# Altium footprint library Stm8_PCB.PcbLib: 9 footprints
Each footprint in its own frame and in the unit in brackets; x right, y up, seen from the top. Pads: shape width x height; smd on the part's side, far side on the other; paste and mask are expansions set on the pad; w line width, h text height; cw(c..) or ccw(c..) is an arc to the next point about the centre after c.
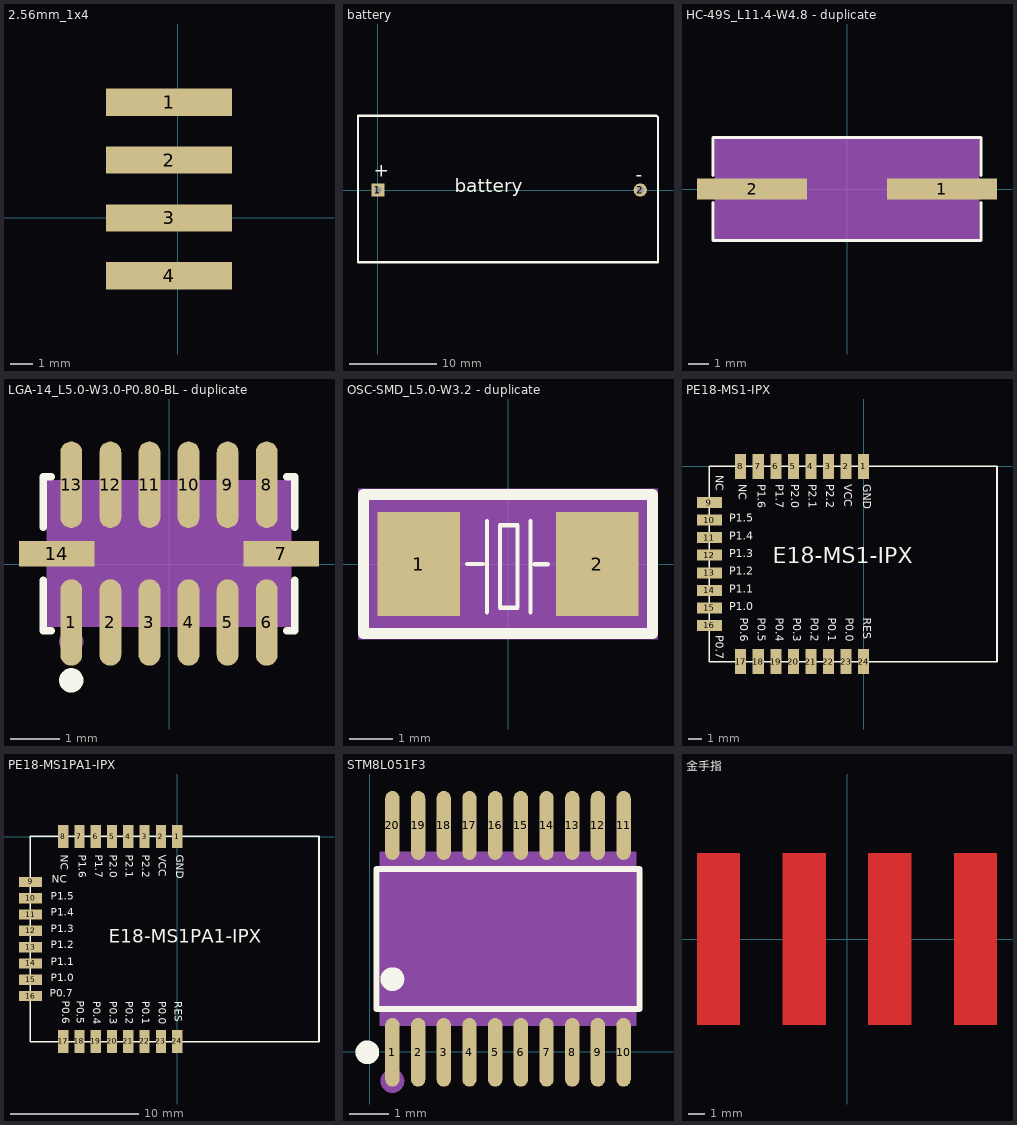
[diagram p0: the footprints below, top view; thin cyan lines are the x and y axes]

## 2.56mm_1x4 [mm]
pads (4):
  rect 5.54x1.2 smd: 1(-0.385,5.08) 2(-0.385,2.54) 3(-0.385,0) 4(-0.385,-2.54)

## battery [mil]
pads (2):
  rect 60x60 hole 30: 1(0,0)
  round 60 hole 30: 2(1180,0)
Top Overlay:
  lines w10: -89.96,334.46 -89.96,-324.44 -89.4,-325 1260.04,-325 1260.04,327.69 1253.28,334.46 -88.33,334.46
  text "battery" at 345,-10.01 h60
  text "-" at 1160,40.01 h60
  text "+" at -20,60 h60

## HC-49S_L11.4-W4.8 - duplicate [mm]
pads (2):
  rect 5.274x1.02 smd: 1(4.553,0) 2(-4.553,0)
Top Overlay:
  lines w0.152: -6.426,-0.662 -6.426,-2.476 6.426,-2.476 6.426,-0.662 ; -6.426,0.662 -6.426,2.476 6.426,2.476 6.426,0.662
Mechanical 4:
  region: -6.35,-2.4 -6.35,2.4 6.35,2.4 6.35,-2.4
Mechanical 5:
  region: 6.35,-0.3 6.35,0.3 2,0.3 2,-0.3
  region: -6.35,-0.3 -6.35,0.3 -2,0.3 -2,-0.3
Mechanical 6:
  circle w0.06: c-6.35,-2.4 r0.03

## LGA-14_L5.0-W3.0-P0.80-BL - duplicate [mm]
pads (14):
  oval 0.448x1.769 smd: 1(-2,-1.197) 2(-1.2,-1.197) 3(-0.4,-1.197) 4(0.4,-1.197) 5(1.2,-1.197) 6(2,-1.197) 8(2,1.622) 9(1.2,1.622) 10(0.4,1.622) 11(-0.4,1.622) 12(-1.2,1.622) 13(-2,1.622)
  rect 1.545x0.522 smd: 7(2.298,0.213) 14(-2.298,0.213)
Top Overlay:
  circle w0.25: c-2,-2.382 r0.125
  lines w0.152: -2.576,-0.328 -2.576,-1.364 -2.414,-1.364 ; -2.576,0.753 -2.576,1.789 -2.414,1.789 ; 2.414,-1.364 2.576,-1.364 2.576,-0.328 ; 2.414,1.789 2.576,1.789 2.576,0.753
Mechanical 4:
  region: -2.5,-1.287 -2.5,1.713 2.5,1.713 2.5,-1.287
Mechanical 5:
  region: -2.25,-1.287 -2.25,-0.337 -1.75,-0.337 -1.75,-1.287
  region: -1.45,-1.287 -1.45,-0.337 -0.95,-0.337 -0.95,-1.287
  region: -0.65,-1.287 -0.65,-0.337 -0.15,-0.337 -0.15,-1.287
  region: 0.15,-1.287 0.15,-0.337 0.65,-0.337 0.65,-1.287
  region: 0.95,-1.287 0.95,-0.337 1.45,-0.337 1.45,-1.287
  region: 1.75,-1.287 1.75,-0.337 2.25,-0.337 2.25,-1.287
  region: 1.55,-0.037 1.55,0.463 2.5,0.463 2.5,-0.037
  region: 1.75,1.713 1.75,0.763 2.25,0.763 2.25,1.713
  region: 0.95,1.713 0.95,0.763 1.45,0.763 1.45,1.713
  region: 0.15,1.713 0.15,0.763 0.65,0.763 0.65,1.713
  region: -0.65,1.713 -0.65,0.763 -0.15,0.763 -0.15,1.713
  region: -1.45,1.713 -1.45,0.763 -0.95,0.763 -0.95,1.713
  region: -2.25,1.713 -2.25,0.763 -1.75,0.763 -1.75,1.713
  region: -1.55,-0.037 -1.55,0.463 -2.5,0.463 -2.5,-0.037
Mechanical 6:
  circle w0.06: c-2.5,-1.288 r0.03
Mechanical 15:
  circle w0.25: c-2,-1.588 r0.125

## OSC-SMD_L5.0-W3.2 - duplicate [mm]
pads (2):
  rect 1.9x2.4 smd: 1(-2.05,0) 2(2.05,0)
Top Overlay:
  lines w0.1: -0.94,0 -0.584,0 ; -0.483,-1.109 -0.483,0.991 ; 0.517,-1.109 0.517,0.991 ; 0.617,-0.009 0.917,-0.009 ; -0.183,-1.009 -0.183,0.89 0.217,0.89 0.217,-1.009 -0.183,-1.009
  lines w0.254: -3.325,-1.6 3.325,-1.6 3.325,-0.7 3.325,0.7 3.325,1.6 -3.325,1.6 -3.325,0.7 -3.325,-0.7 -3.325,-1.6
Mechanical 4:
  region: -3.452,1.727 3.452,1.727 3.452,-1.727 -3.452,-1.727
Mechanical 5:
  region: -3,1.2 -1.1,1.2 -1.1,-1.2 -3,-1.2
  region: 1.1,1.2 3,1.2 3,-1.2 1.1,-1.2

## PE18-MS1-IPX [mm] "20.8mm*14.1mm*2.40mm-S"
pads (24):
  rect 0.8x1.8 smd: 1(0,0) 2(-1.27,0) 3(-2.54,0) 4(-3.81,0) 5(-5.08,0) 6(-6.35,0) 7(-7.62,0) 8(-8.89,0) 17(-8.89,-14.114) 18(-7.62,-14.114) 19(-6.35,-14.114) 20(-5.08,-14.114) 21(-3.81,-14.114) 22(-2.54,-14.114) 23(-1.27,-14.114) 24(0,-14.114)
  rect 1.8x0.8 smd: 9(-11.146,-2.612) 10(-11.146,-3.882) 11(-11.146,-5.152) 12(-11.146,-6.422) 13(-11.146,-7.692) 14(-11.146,-8.962) 15(-11.146,-10.232) 16(-11.146,-11.502)
Top Overlay:
  lines w0.127: -11.158,-14.127 -11.158,0.013 9.642,0.013 9.642,-14.127 -11.158,-14.127
  text "E18-MS1-IPX" at -6.586,-7.396 h2
  text "GND" at -0.236,-1.3 h1
  text "VCC" at -1.633,-1.3 h1
  text "P2.2" at -2.903,-1.3 h1
  text "P2.1" at -4.173,-1.3 h1
  text "P2.0" at -5.443,-1.3 h1
  text "P1.7" at -6.586,-1.3 h1
  text "P1.6" at -7.856,-1.3 h1
  text "NC" at -10.922,-0.635 h1
  text "P0.6" at -9.126,-10.952 h1
  text "P0.5" at -7.856,-10.952 h1
  text "P0.4" at -6.586,-10.952 h1
  text "P0.3" at -5.316,-10.952 h1
  text "P0.2" at -4.046,-10.952 h1
  text "P0.1" at -2.776,-10.952 h1
  text "P0.0" at -1.506,-10.952 h1
  text "RES" at -0.236,-10.952 h1
  text "NC" at -9.253,-1.3 h1
  text "P1.5" at -9.723,-4.233 h1
  text "P1.4" at -9.723,-5.503 h1
  text "P1.3" at -9.723,-6.773 h1
  text "P1.2" at -9.723,-8.043 h1
  text "P1.1" at -9.723,-9.339 h1
  text "P1.0" at -9.723,-10.609 h1
  text "P0.7" at -10.922,-12.192 h1

## PE18-MS1PA1-IPX [mm] "22.5mm*16mm*2.40mm-S"
pads (24):
  rect 0.8x1.8 smd: 1(0,0) 2(-1.27,0) 3(-2.54,0) 4(-3.81,0) 5(-5.08,0) 6(-6.35,0) 7(-7.62,0) 8(-8.89,0) 17(-8.89,-15.975) 18(-7.62,-15.975) 19(-6.35,-15.975) 20(-5.08,-15.975) 21(-3.81,-15.975) 22(-2.54,-15.975) 23(-1.27,-15.975) 24(0,-15.975)
  rect 1.8x0.8 smd: 9(-11.432,-3.542) 10(-11.432,-4.812) 11(-11.432,-6.082) 12(-11.432,-7.352) 13(-11.432,-8.622) 14(-11.432,-9.892) 15(-11.432,-11.162) 16(-11.432,-12.432)
Top Overlay:
  lines w0.127: -11.445,-15.987 -11.445,0.013 11.055,0.013 11.055,-15.987 -11.445,-15.987
  text "P0.7" at -9.921,-12.685 h1
  text "P1.0" at -9.865,-11.483 h1
  text "P1.1" at -9.865,-10.213 h1
  text "P1.2" at -9.865,-8.918 h1
  text "P1.3" at -9.865,-7.648 h1
  text "P1.4" at -9.865,-6.378 h1
  text "P1.5" at -9.865,-5.108 h1
  text "NC" at -9.268,-1.412 h1
  text "RES" at -0.378,-12.842 h1
  text "P0.0" at -1.648,-12.842 h1
  text "P0.1" at -2.918,-12.842 h1
  text "P0.2" at -4.188,-12.842 h1
  text "P0.3" at -5.458,-12.842 h1
  text "P0.4" at -6.728,-12.842 h1
  text "P0.5" at -8.016,-12.812 h1
  text "P0.6" at -9.159,-12.812 h1
  text "NC" at -9.794,-3.795 h1
  text "P1.6" at -7.871,-1.412 h1
  text "P1.7" at -6.601,-1.412 h1
  text "P2.0" at -5.458,-1.412 h1
  text "P2.1" at -4.188,-1.412 h1
  text "P2.2" at -2.918,-1.412 h1
  text "VCC" at -1.648,-1.412 h1
  text "GND" at -0.251,-1.412 h1
  text "E18-MS1PA1-IPX" at -5.349,-8.621 h1.8

## STM8L051F3 [mil] "STM8L051F3"
pads (20):
  oval 14.33x68.58 smd: 1(22.64,-0.39) 2(48.23,-0.39) 3(73.82,-0.39) 4(99.41,-0.39) 5(125,-0.39) 6(150.59,-0.39) 7(176.18,-0.39) 8(201.77,-0.39) 9(227.36,-0.39) 10(252.95,-0.39) 11(252.95,225.67) 12(227.36,225.67) 13(201.77,225.67) 14(176.18,225.67) 15(150.59,225.67) 16(125,225.67) 17(99.41,225.67) 18(73.82,225.67) 19(48.23,225.67) 20(22.64,225.67)
Top Overlay:
  circle w11.81: c22.63,72.52 r5.91
  circle w11.81: c-2.34,-0.39 r5.91
  lines w6: 6.84,42.9 6.84,182.38 268.75,182.38 268.75,42.9 6.84,42.9
Mechanical 4:
  region: 9.84,26.03 9.84,199.25 265.75,199.25 265.75,26.03
Mechanical 5:
  drawing of 40 lines, arcs and shapes, not listed
Mechanical 15:
  circle w11.81: c22.63,-29.09 r5.91

## 金手指 [mm]
Top Layer:
  region: 6.35,5.08 8.89,5.08 8.89,-5.08 6.35,-5.08 6.35,-4.953
  region: 1.27,5.08 3.81,5.08 3.81,-5.08 1.27,-5.08 1.27,-4.953
  region: -3.81,5.08 -1.27,5.08 -1.27,-5.08 -3.81,-5.08 -3.81,-4.953
  region: -8.89,5.08 -6.35,5.08 -6.35,-5.08 -8.89,-5.08 -8.89,-4.953
Top Paste:
  region: 6.35,5.08 8.89,5.08 8.89,-5.08 6.35,-5.08 6.35,-4.953
  region: 1.27,5.08 3.81,5.08 3.81,-5.08 1.27,-5.08 1.27,-4.953
  region: -3.81,5.08 -1.27,5.08 -1.27,-5.08 -3.81,-5.08 -3.81,-4.953
  region: -8.89,5.08 -6.35,5.08 -6.35,-5.08 -8.89,-5.08 -8.89,-4.953
Top Solder:
  region: 6.35,5.08 8.89,5.08 8.89,-5.08 6.35,-5.08 6.35,-4.953
  region: 1.27,5.08 3.81,5.08 3.81,-5.08 1.27,-5.08 1.27,-4.953
  region: -3.81,5.08 -1.27,5.08 -1.27,-5.08 -3.81,-5.08 -3.81,-4.953
  region: -8.89,5.08 -6.35,5.08 -6.35,-5.08 -8.89,-5.08 -8.89,-4.953